# EAGLE library part FTDI (library podkommander)
Schematic symbol arrows show direction of data transfer from FTDI breakout board (the package HEADER-1X06-FTDI has its pins labeled opposite of tPlace layer arrows to account for this). If you're confused, just follow the instructions below: FTDI | ATMega328* ======================== pin | label | pin | label ------------------------------ 1 GND | 8 GND 2 > CTS | (NC) (or GND) 3 < VCC | 7 VCC 4 < TX | 2 D0/RX 5 > RX | 3 D1/TX 6 < RTS | 1 RESET*** (DTR**) *D prefix means digital pin ** RTS on Adafruit FTDI Friend, DTR on Sparkfun FTDI Basic *** Through 0.1uF capacitor; pin 1 held at VCC through 10k resistor
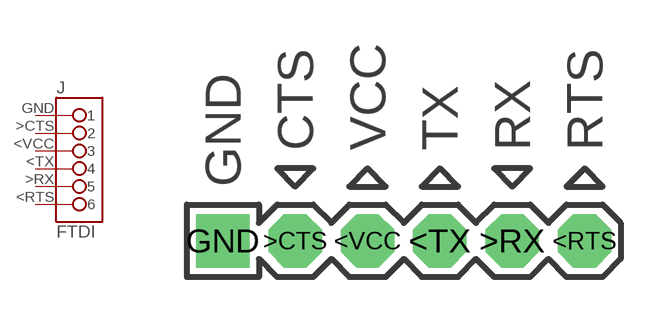
[diagram p7: symbol with the pads of HEADER-1X06-FTDI; footprint HEADER-1X06-FTDI]

Designator prefix J

## FTDI  [HEADER-1X06-FTDI]
<RTS  6
<TX  4
<VCC  3
>CTS  2
>RX  5
GND  1

## Footprint HEADER-1X06-FTDI (pad centres in mm)
drill 1.016 pad 1.88 octagon: <RTS 6.35,0; <TX 1.27,0; <VCC -1.27,0; >CTS -3.81,0; >RX 3.81,0
drill 1.016 pad 1.88 square: GND -6.35,0